# Altium footprint library con-amp-micromatch-8-vias.PCBLIB: 10 footprints
Each footprint in its own frame and in the unit in brackets; x right, y up, seen from the top. Pads: shape width x height; smd on the part's side, far side on the other; paste and mask are expansions set on the pad; w line width, h text height; cw(c..) or ccw(c..) is an arc to the next point about the centre after c.
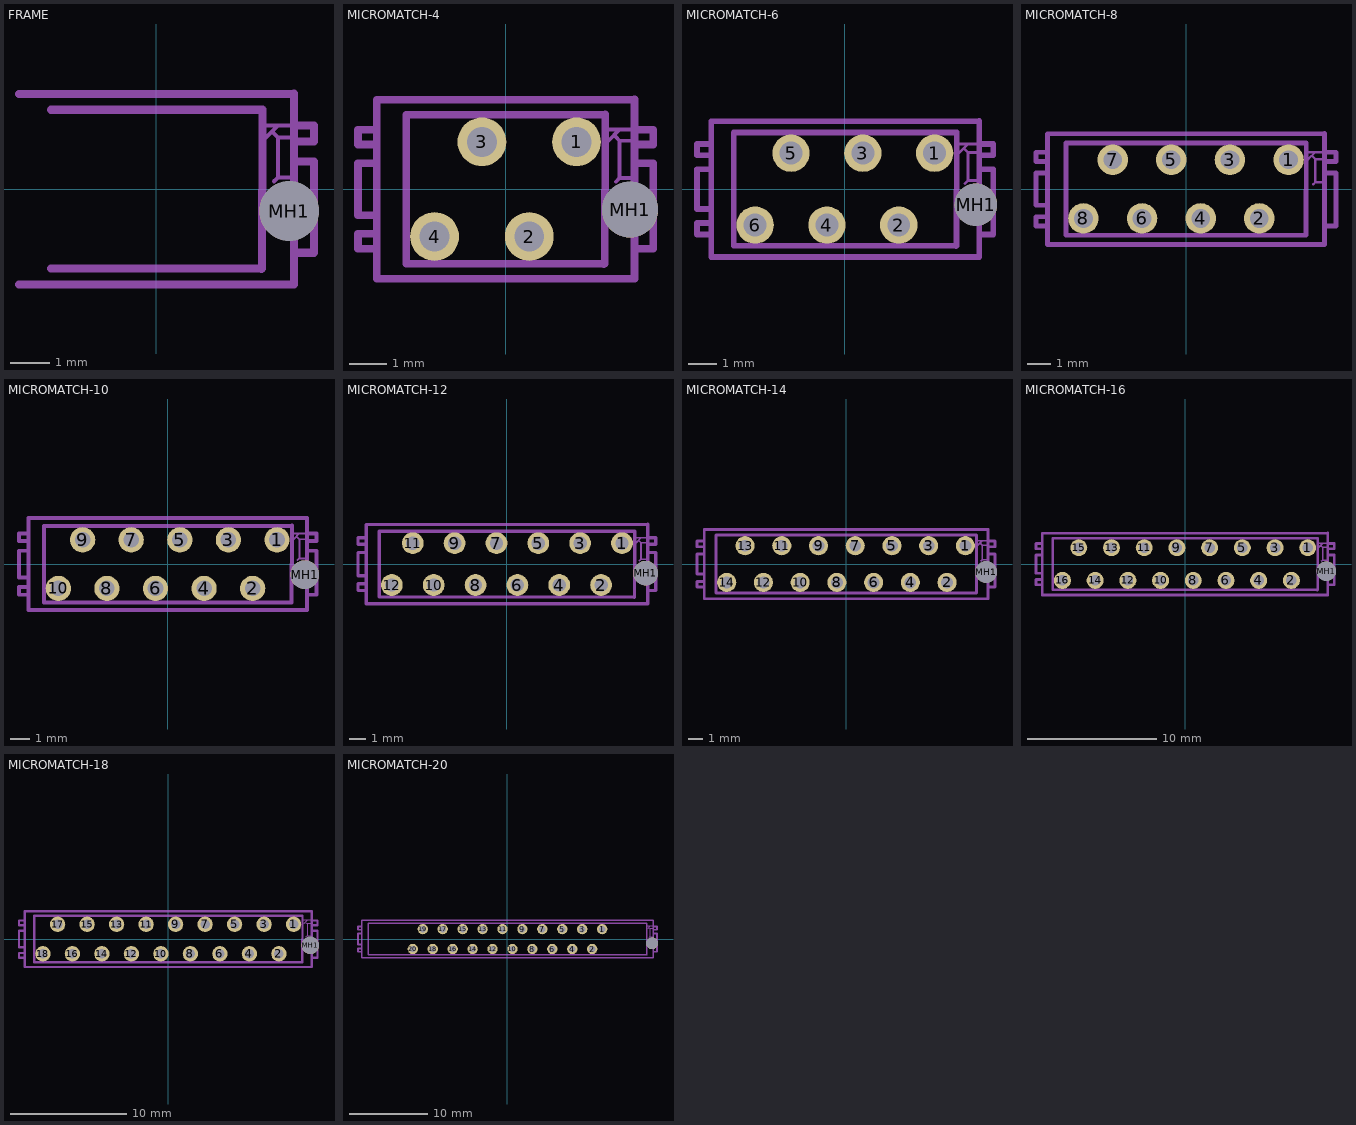
[diagram p0: the footprints below, top view; thin cyan lines are the x and y axes]

## FRAME [mil]
pads (1):
  round 59.06 hole 59.06 unplated: MH1(131.5,-21.65)
tDocu:
  lines w8: 104.72,-40.94 104.72,-1.18 ; 136.22,-55.12 136.22,12.99 ; 155.91,-46.06 155.91,1.97
tPlace:
  lines w4: 108.66,51.18 120.47,62.99 ; 108.66,62.99 120.47,62.99 ; 116.54,7.87 120.47,11.81 ; 116.54,55.12 120.47,51.18 ; 132.28,11.81 120.47,11.81 ; 132.28,51.18 120.47,51.18 ; 132.28,62.99 120.47,62.99 ; 120.47,11.81 120.47,51.18
  lines w8: -136.22,-94.49 136.22,-94.49 ; -136.22,94.49 136.22,94.49 ; -104.72,-78.74 104.72,-78.74 ; -104.72,78.74 104.72,78.74 ; 103.94,-79.13 104.72,-77.17 104.72,-42.13 ; 105.12,-0.79 105.12,79.13 ; 136.22,-94.09 136.22,-55.12 ; 136.22,11.81 136.22,94.88 ; 140.16,-62.99 155.91,-62.99 155.91,-44.49 ; 140.16,27.56 155.91,27.56 155.91,1.57 ; 140.16,47.24 155.91,47.24 155.91,62.99 140.16,62.99

## MICROMATCH-4 [mil]
pads (5):
  round 51.5 hole 31.5: 1(75,50) 2(25,-50) 3(-25,50) 4(-75,-50)
  round 59.06 hole 59.06 unplated: MH1(131.5,-21.65)
tDocu:
  lines w8: 104.72,-40.94 104.72,-1.18 ; 136.22,-55.12 136.22,12.99 ; 155.91,-46.06 155.91,1.97
tPlace:
  lines w4: 108.66,51.18 120.47,62.99 ; 108.66,62.99 120.47,62.99 ; 116.54,7.87 120.47,11.81 ; 116.54,55.12 120.47,51.18 ; 132.28,11.81 120.47,11.81 ; 132.28,51.18 120.47,51.18 ; 132.28,62.99 120.47,62.99 ; 120.47,11.81 120.47,51.18
  lines w8: -140.16,-62.99 -155.91,-62.99 -155.91,-47.24 -140.16,-47.24 ; -140.16,-27.56 -155.91,-27.56 -155.91,27.56 -140.16,27.56 ; -140.16,47.24 -155.91,47.24 -155.91,62.99 -140.16,62.99 ; 103.94,-79.13 104.72,-77.17 104.72,-42.13 ; 104.72,-78.74 -104.72,-78.74 -104.72,78.74 104.72,78.74 ; 105.12,-0.79 105.12,79.13 ; 136.22,-94.49 -136.22,-94.49 -136.22,94.49 136.22,94.49 ; 136.22,-94.09 136.22,-55.12 ; 136.22,11.81 136.22,94.88 ; 140.16,-62.99 155.91,-62.99 155.91,-44.49 ; 140.16,27.56 155.91,27.56 155.91,1.57 ; 140.16,47.24 155.91,47.24 155.91,62.99 140.16,62.99

## MICROMATCH-6 [mil]
pads (7):
  round 52 hole 32: 1(125,50) 2(75,-50) 3(25,50) 4(-25,-50) 5(-75,50) 6(-125,-50)
  round 59.06 hole 59.06 unplated: MH1(182.28,-21.65)
tDocu:
  lines w8: 155.51,-40.94 155.51,-1.18 ; 187.01,-55.12 187.01,12.99 ; 206.69,-46.06 206.69,1.97
tPlace:
  lines w4: 159.45,51.18 171.26,62.99 ; 159.45,62.99 171.26,62.99 ; 167.32,7.87 171.26,11.81 ; 167.32,55.12 171.26,51.18 ; 183.07,11.81 171.26,11.81 ; 183.07,51.18 171.26,51.18 ; 183.07,62.99 171.26,62.99 ; 171.26,11.81 171.26,51.18
  lines w8: -190.16,-62.99 -205.91,-62.99 -205.91,-47.24 -190.16,-47.24 ; -190.16,-27.56 -205.91,-27.56 -205.91,27.56 -190.16,27.56 ; -190.16,47.24 -205.91,47.24 -205.91,62.99 -190.16,62.99 ; -85.43,-94.49 187.01,-94.49 ; -85.43,94.49 187.01,94.49 ; -53.94,-78.74 155.51,-78.74 ; -53.94,78.74 155.51,78.74 ; 154.72,-79.13 155.51,-77.17 155.51,-42.13 ; 154.72,-78.74 -154.72,-78.74 -154.72,78.74 154.72,78.74 ; 155.91,-0.79 155.91,79.13 ; 186.22,-94.49 -186.22,-94.49 -186.22,94.49 186.22,94.49 ; 187.01,-94.09 187.01,-55.12 ; 187.01,11.81 187.01,94.88 ; 190.94,-62.99 206.69,-62.99 206.69,-44.49 ; 190.94,27.56 206.69,27.56 206.69,1.57 ; 190.94,47.24 206.69,47.24 206.69,62.99 190.94,62.99

## MICROMATCH-8 [mil]
pads (8):
  round 52 hole 32: 1(175,50) 2(125,-50) 3(75,50) 4(25,-50) 5(-25,50) 6(-75,-50) 7(-125,50) 8(-175,-50)
tDocu:
  lines w8: 204.72,-40.94 204.72,-1.18 ; 236.22,-55.12 236.22,12.99 ; 255.91,-46.06 255.91,1.97
tPlace:
  lines w4: 208.66,51.18 220.47,62.99 ; 208.66,62.99 220.47,62.99 ; 216.54,7.87 220.47,11.81 ; 216.54,55.12 220.47,51.18 ; 232.28,11.81 220.47,11.81 ; 232.28,51.18 220.47,51.18 ; 232.28,62.99 220.47,62.99 ; 220.47,11.81 220.47,51.18
  lines w8: -240.16,-62.99 -255.91,-62.99 -255.91,-47.24 -240.16,-47.24 ; -240.16,-27.56 -255.91,-27.56 -255.91,27.56 -240.16,27.56 ; -240.16,47.24 -255.91,47.24 -255.91,62.99 -240.16,62.99 ; 204.72,-78.74 -204.72,-78.74 -204.72,78.74 204.72,78.74 ; 204.72,-77.17 204.72,-42.13 ; 205.12,-0.79 205.12,79.13 ; 236.22,-94.49 -236.22,-94.49 -236.22,94.49 236.22,94.49 ; 236.22,-94.09 236.22,-55.12 ; 236.22,11.81 236.22,94.88 ; 240.16,-62.99 255.91,-62.99 255.91,-44.49 ; 240.16,27.56 255.91,27.56 255.91,1.57 ; 240.16,47.24 255.91,47.24 255.91,62.99 240.16,62.99

## MICROMATCH-10 [mil]
pads (11):
  round 52 hole 32: 1(225,50) 2(175,-50) 3(125,50) 4(75,-50) 5(25,50) 6(-25,-50) 7(-75,50) 8(-125,-50) 9(-175,50) 10(-225,-50)
  round 59.06 hole 59.06 unplated: MH1(281.89,-21.65)
tDocu:
  lines w8: 255.12,-40.94 255.12,-1.18 ; 286.61,-55.12 286.61,12.99 ; 306.3,-46.06 306.3,1.97
tPlace:
  lines w4: 259.06,51.18 270.87,62.99 ; 259.06,62.99 270.87,62.99 ; 266.93,7.87 270.87,11.81 ; 266.93,55.12 270.87,51.18 ; 282.68,11.81 270.87,11.81 ; 282.68,51.18 270.87,51.18 ; 282.68,62.99 270.87,62.99 ; 270.87,11.81 270.87,51.18
  lines w8: -290.16,-62.99 -305.91,-62.99 -305.91,-47.24 -290.16,-47.24 ; -290.16,-27.56 -305.91,-27.56 -305.91,27.56 -290.16,27.56 ; -290.16,47.24 -305.91,47.24 -305.91,62.99 -290.16,62.99 ; 14.17,-94.49 286.61,-94.49 ; 14.17,94.49 286.61,94.49 ; 45.67,-78.74 255.12,-78.74 ; 45.67,78.74 255.12,78.74 ; 254.33,-79.13 255.12,-77.17 255.12,-42.13 ; 254.72,-78.74 -254.72,-78.74 -254.72,78.74 254.72,78.74 ; 255.51,-0.79 255.51,79.13 ; 286.22,-94.49 -286.22,-94.49 -286.22,94.49 286.22,94.49 ; 286.61,-94.09 286.61,-55.12 ; 286.61,11.81 286.61,94.88 ; 290.55,-62.99 306.3,-62.99 306.3,-44.49 ; 290.55,27.56 306.3,27.56 306.3,1.57 ; 290.55,47.24 306.3,47.24 306.3,62.99 290.55,62.99

## MICROMATCH-12 [mil]
pads (13):
  round 52 hole 32: 1(275,50) 2(225,-50) 3(175,50) 4(125,-50) 5(75,50) 6(25,-50) 7(-25,50) 8(-75,-50) 9(-125,50) 10(-175,-50) 11(-225,50) 12(-275,-50)
  round 59.06 hole 59.06 unplated: MH1(331.5,-21.65)
tDocu:
  lines w8: 304.72,-40.94 304.72,-1.18 ; 336.22,-55.12 336.22,12.99 ; 355.91,-46.06 355.91,1.97
tPlace:
  lines w4: 308.66,51.18 320.47,62.99 ; 308.66,62.99 320.47,62.99 ; 316.54,7.87 320.47,11.81 ; 316.54,55.12 320.47,51.18 ; 332.28,11.81 320.47,11.81 ; 332.28,51.18 320.47,51.18 ; 332.28,62.99 320.47,62.99 ; 320.47,11.81 320.47,51.18
  lines w8: -340.16,-62.99 -355.91,-62.99 -355.91,-47.24 -340.16,-47.24 ; -340.16,-27.56 -355.91,-27.56 -355.91,27.56 -340.16,27.56 ; -340.16,47.24 -355.91,47.24 -355.91,62.99 -340.16,62.99 ; 63.78,-94.49 336.22,-94.49 -336.22,-94.49 -336.22,94.49 336.22,94.49 63.78,94.49 ; 95.28,-78.74 304.72,-78.74 -304.72,-78.74 -304.72,78.74 304.72,78.74 95.28,78.74 ; 303.94,-79.13 304.72,-77.17 304.72,-42.13 ; 305.12,-0.79 305.12,79.13 ; 336.22,-94.09 336.22,-55.12 ; 336.22,11.81 336.22,94.88 ; 340.16,-62.99 355.91,-62.99 355.91,-44.49 ; 340.16,27.56 355.91,27.56 355.91,1.57 ; 340.16,47.24 355.91,47.24 355.91,62.99 340.16,62.99

## MICROMATCH-14 [mil]
pads (15):
  round 52 hole 32: 1(325,50) 2(275,-50) 3(225,50) 4(175,-50) 5(125,50) 6(75,-50) 7(25,50) 8(-25,-50) 9(-75,50) 10(-125,-50) 11(-175,50) 12(-225,-50) 13(-275,50) 14(-325,-50)
  round 59.06 hole 59.06 unplated: MH1(381.5,-21.65)
tDocu:
  lines w8: 354.72,-40.94 354.72,-1.18 ; 386.22,-55.12 386.22,12.99 ; 405.91,-46.06 405.91,1.97
tPlace:
  lines w4: 358.66,51.18 370.47,62.99 ; 358.66,62.99 370.47,62.99 ; 366.54,7.87 370.47,11.81 ; 366.54,55.12 370.47,51.18 ; 382.28,11.81 370.47,11.81 ; 382.28,51.18 370.47,51.18 ; 382.28,62.99 370.47,62.99 ; 370.47,11.81 370.47,51.18
  lines w8: -390.16,-62.99 -405.91,-62.99 -405.91,-47.24 -390.16,-47.24 ; -390.16,-27.56 -405.91,-27.56 -405.91,27.56 -390.16,27.56 ; -390.16,47.24 -405.91,47.24 -405.91,62.99 -390.16,62.99 ; 113.78,-94.49 386.22,-94.49 -386.22,-94.49 -386.22,94.49 386.22,94.49 113.78,94.49 ; 145.28,-78.74 354.72,-78.74 -354.72,-78.74 -354.72,78.74 354.72,78.74 145.28,78.74 ; 353.94,-79.13 354.72,-77.17 354.72,-42.13 ; 355.12,-0.79 355.12,79.13 ; 386.22,-94.09 386.22,-55.12 ; 386.22,11.81 386.22,94.88 ; 390.16,-62.99 405.91,-62.99 405.91,-44.49 ; 390.16,27.56 405.91,27.56 405.91,1.57 ; 390.16,47.24 405.91,47.24 405.91,62.99 390.16,62.99

## MICROMATCH-16 [mil]
pads (17):
  round 52 hole 32: 1(375,50) 2(325,-50) 3(275,50) 4(225,-50) 5(175,50) 6(125,-50) 7(75,50) 8(25,-50) 9(-25,50) 10(-75,-50) 11(-125,50) 12(-175,-50) 13(-225,50) 14(-275,-50) 15(-325,50) 16(-375,-50)
  round 59.06 hole 59.06 unplated: MH1(431.89,-21.65)
tDocu:
  lines w8: 405.12,-40.94 405.12,-1.18 ; 436.61,-55.12 436.61,12.99 ; 456.3,-46.06 456.3,1.97
tPlace:
  lines w4: 409.06,51.18 420.87,62.99 ; 409.06,62.99 420.87,62.99 ; 416.93,7.87 420.87,11.81 ; 416.93,55.12 420.87,51.18 ; 432.68,11.81 420.87,11.81 ; 432.68,51.18 420.87,51.18 ; 432.68,62.99 420.87,62.99 ; 420.87,11.81 420.87,51.18
  lines w8: -440.16,-62.99 -455.91,-62.99 -455.91,-47.24 -440.16,-47.24 ; -440.16,-27.56 -455.91,-27.56 -455.91,27.56 -440.16,27.56 ; -440.16,47.24 -455.91,47.24 -455.91,62.99 -440.16,62.99 ; 164.17,-94.49 436.61,-94.49 ; 164.17,94.49 436.61,94.49 ; 195.67,-78.74 405.12,-78.74 ; 195.67,78.74 405.12,78.74 ; 404.33,-79.13 405.12,-77.17 405.12,-42.13 ; 404.72,-78.74 -404.72,-78.74 -404.72,78.74 404.72,78.74 ; 405.51,-0.79 405.51,79.13 ; 436.22,-94.49 -436.22,-94.49 -436.22,94.49 436.22,94.49 ; 436.61,-94.09 436.61,-55.12 ; 436.61,11.81 436.61,94.88 ; 440.55,-62.99 456.3,-62.99 456.3,-44.49 ; 440.55,27.56 456.3,27.56 456.3,1.57 ; 440.55,47.24 456.3,47.24 456.3,62.99 440.55,62.99

## MICROMATCH-18 [mil]
pads (19):
  round 52 hole 32: 1(425,50) 2(375,-50) 3(325,50) 4(275,-50) 5(225,50) 6(175,-50) 7(125,50) 8(75,-50) 9(25,50) 10(-25,-50) 11(-75,50) 12(-125,-50) 13(-175,50) 14(-225,-50) 15(-275,50) 16(-325,-50) 17(-375,50) 18(-425,-50)
  round 59.06 hole 59.06 unplated: MH1(481.5,-21.65)
tDocu:
  lines w8: 454.72,-40.94 454.72,-1.18 ; 486.22,-55.12 486.22,12.99 ; 505.91,-46.06 505.91,1.97
tPlace:
  lines w4: 458.66,51.18 470.47,62.99 ; 458.66,62.99 470.47,62.99 ; 466.54,7.87 470.47,11.81 ; 466.54,55.12 470.47,51.18 ; 482.28,11.81 470.47,11.81 ; 482.28,51.18 470.47,51.18 ; 482.28,62.99 470.47,62.99 ; 470.47,11.81 470.47,51.18
  lines w8: -490.16,-62.99 -505.91,-62.99 -505.91,-47.24 -490.16,-47.24 ; -490.16,-27.56 -505.91,-27.56 -505.91,27.56 -490.16,27.56 ; -490.16,47.24 -505.91,47.24 -505.91,62.99 -490.16,62.99 ; 213.78,-94.49 486.22,-94.49 -486.22,-94.49 -486.22,94.49 486.22,94.49 213.78,94.49 ; 245.28,-78.74 454.72,-78.74 -454.72,-78.74 -454.72,78.74 454.72,78.74 245.28,78.74 ; 453.94,-79.13 454.72,-77.17 454.72,-42.13 ; 455.12,-0.79 455.12,79.13 ; 486.22,-94.09 486.22,-55.12 ; 486.22,11.81 486.22,94.88 ; 490.16,-62.99 505.91,-62.99 505.91,-44.49 ; 490.16,27.56 505.91,27.56 505.91,1.57 ; 490.16,47.24 505.91,47.24 505.91,62.99 490.16,62.99

## MICROMATCH-20 [mil]
pads (21):
  round 52 hole 32: 1(475,50) 2(425,-50) 3(375,50) 4(325,-50) 5(275,50) 6(225,-50) 7(175,50) 8(125,-50) 9(75,50) 10(25,-50) 11(-25,50) 12(-75,-50) 13(-125,50) 14(-175,-50) 15(-225,50) 16(-275,-50) 17(-325,50) 18(-375,-50) 19(-425,50) 20(-475,-50)
  round 59.06 hole 59.06 unplated: MH1(725.59,-21.65)
tDocu:
  lines w8: 698.82,-40.94 698.82,-1.18 ; 730.32,-55.12 730.32,12.99 ; 750,-46.06 750,1.97
tPlace:
  lines w4: 702.76,51.18 714.57,62.99 ; 702.76,62.99 714.57,62.99 ; 710.63,7.87 714.57,11.81 ; 710.63,55.12 714.57,51.18 ; 726.38,11.81 714.57,11.81 ; 726.38,51.18 714.57,51.18 ; 726.38,62.99 714.57,62.99 ; 714.57,11.81 714.57,51.18
  lines w8: -734.25,-62.99 -750,-62.99 -750,-47.24 -734.25,-47.24 ; -734.25,-27.56 -750,-27.56 -750,27.56 -734.25,27.56 ; -734.25,47.24 -750,47.24 -750,62.99 -734.25,62.99 ; -242.13,-94.49 242.13,-94.49 ; -242.13,94.49 242.13,94.49 ; -210.63,-78.74 210.63,-78.74 ; -210.63,78.74 210.63,78.74 ; 457.87,-94.49 730.32,-94.49 242.13,-94.49 ; 457.87,94.49 730.32,94.49 242.13,94.49 ; 489.37,-78.74 698.82,-78.74 210.63,-78.74 ; 489.37,78.74 698.82,78.74 210.63,78.74 ; 698.03,-79.13 698.82,-77.17 698.82,-42.13 ; 699.21,-0.79 699.21,79.13 ; 730.32,-94.09 730.32,-55.12 ; 730.32,11.81 730.32,94.88 ; 734.25,-62.99 750,-62.99 750,-44.49 ; 734.25,27.56 750,27.56 750,1.57 ; 734.25,47.24 750,47.24 750,62.99 734.25,62.99 ; 210.63,-78.74 -698.82,-78.74 -698.82,78.74 210.63,78.74 ; 242.13,-94.49 -730.32,-94.49 -730.32,94.49 242.13,94.49